# EAGLE library part MCP23017-E/SP (library SD-SolderSync-Library)
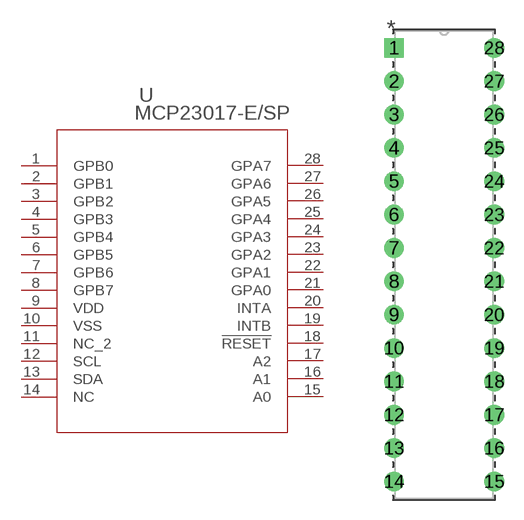
[diagram p9: symbol with the pads of MCP23017; footprint MCP23017]

Designator prefix U

## MCP23017-E/SP_IO_MCH (COPYRIGHT: Copyright (C) 2025 Ultra Librarian. All rights reserved.; MANUFACTURER_PART_NUMBER: MCP23017-E/SP; MFR_NAME: Microchip)  [MCP23017]
1  GPB0  pas
2  GPB1  pas
3  GPB2  pas
4  GPB3  pas
5  GPB4  pas
6  GPB5  pas
7  GPB6  pas
8  GPB7  pas
9  VDD  pas
10  VSS  pas
11  NC_2  pas
12  SCL  pas
13  SDA  pas
14  NC  pas
15  A0  pas
16  A1  pas
17  A2  pas
18  !RESET  pas
19  INTB  pas
20  INTA  pas
21  GPA0  pas
22  GPA1  pas
23  GPA2  pas
24  GPA3  pas
25  GPA4  pas
26  GPA5  pas
27  GPA6  pas
28  GPA7  pas

## Footprint MCP23017 (pad centres in mm)
drill 0.991 pad 1.499 square: 1 0,0
drill 0.991 pad 1.499: 2 0,-2.54; 3 0,-5.08; 4 0,-7.62; 5 0,-10.16; 6 0,-12.7; 7 0,-15.24; 8 0,-17.78; 9 0,-20.32; 10 0,-22.86; 11 0,-25.4; 12 0,-27.94; 13 0,-30.48; 14 0,-33.02; 15 7.62,-33.02; 16 7.62,-30.48; 17 7.62,-27.94; 18 7.62,-25.4; 19 7.62,-22.86; 20 7.62,-20.32; 21 7.62,-17.78; 22 7.62,-15.24; 23 7.62,-12.7; 24 7.62,-10.16; 25 7.62,-7.62; 26 7.62,-5.08; 27 7.62,-2.54; 28 7.62,0